# EAGLE library part LT3652 (library Analog Devices)
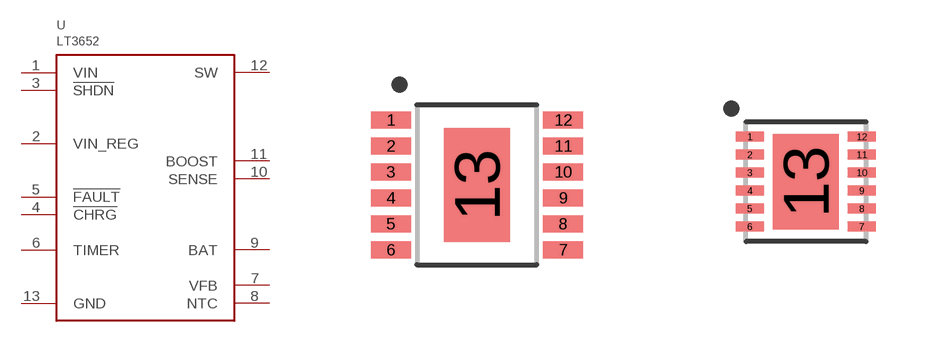
[diagram p2: symbol with the pads of MSOP12_EP; footprints MSOP12_EP, DFN12]

Designator prefix U

## LT3652EMSE, LT3652IMSE  [MSOP12_EP]
1  VIN
2  VIN_REG
3  !SHDN
4  !CHRG
5  !FAULT
6  TIMER
7  VFB
8  NTC
9  BAT
10  SENSE
11  BOOST
12  SW
13  GND

## LT3652EDD, LT3652IDD  [DFN12]
Pads as for MSOP12_EP

## Footprint MSOP12_EP (pad centres in mm)
smd 1 x 0.42: 1 -2.155,1.625; 2 -2.155,0.975; 3 -2.155,0.325; 4 -2.155,-0.325; 5 -2.155,-0.975; 6 -2.155,-1.625; 7 2.155,-1.625; 8 2.155,-0.975; 9 2.155,-0.325; 10 2.155,0.325; 11 2.155,0.975; 12 2.155,1.625
smd 1.651 x 2.845: 13 0,0

## Footprint DFN12 (pad centres in mm)
smd 0.7 x 0.25: 1 -1.4,1.125; 2 -1.4,0.675; 3 -1.4,0.225; 4 -1.4,-0.225; 5 -1.4,-0.675; 6 -1.4,-1.126; 7 1.4,-1.125; 8 1.4,-0.675; 9 1.4,-0.225; 10 1.4,0.225; 11 1.4,0.675; 12 1.4,1.125
smd 1.65 x 2.38: 13 0,0